# EAGLE library part HP5082-7414 (library Ketturi electronics)
LED DISPLAY DIP12 Ultra low power 7-segment displays.
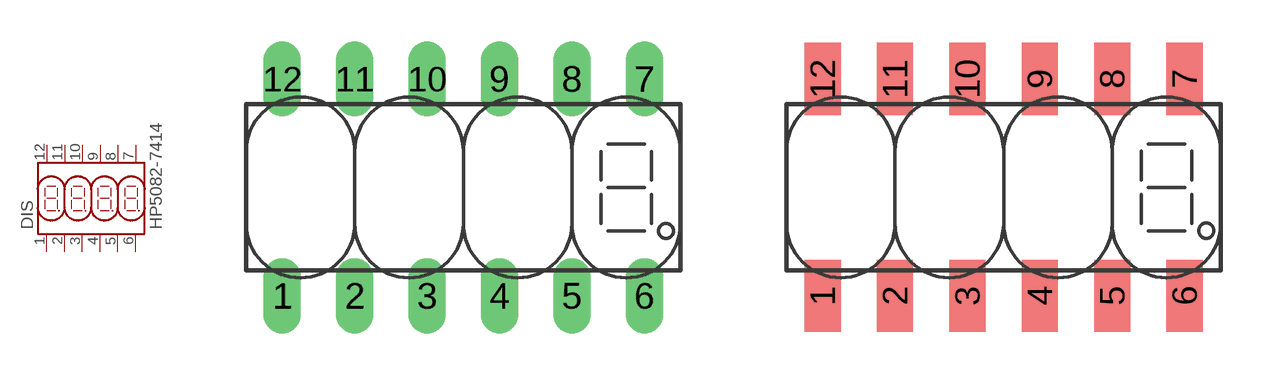
[diagram p3: symbol with the pads of HP5082-7414; footprints HP5082-7414, HP5082-7414SMD]

Designator prefix DIS

## HP5082-7414DIP  [HP5082-7414]
1  C1  pas
2  AE  pas
3  AC  pas
4  C3  pas
5  ADP  pas
6  C4  pas
7  AG  pas
8  AD  pas
9  AF  pas
10  C2  pas
11  AB  pas
12  AA  pas

## HP5082-7414SMD  [HP5082-7414SMD]
Pads as for HP5082-7414

## Footprint HP5082-7414 (pad centres in mm)
Dual In Line Package
drill 0.813 long: 1 -7.62,-3.81; 2 -5.08,-3.81; 3 -2.54,-3.81; 4 0,-3.81; 5 2.54,-3.81; 6 5.08,-3.81; 7 5.08,3.81; 8 2.54,3.81; 9 0,3.81; 10 -2.54,3.81; 11 -5.08,3.81; 12 -7.62,3.81

## Footprint HP5082-7414SMD (pad centres in mm)
HP5082-7414 SMD version Legs must be cut if soldered without trough holes
smd 1.27 x 2.54: 1 -6.35,-3.81; 2 -3.81,-3.81; 3 -1.27,-3.81; 4 1.27,-3.81; 5 3.81,-3.81; 6 6.35,-3.81; 7 6.35,3.81; 8 3.81,3.81; 9 1.27,3.81; 10 -1.27,3.81; 11 -3.81,3.81; 12 -6.35,3.81